# Altium footprint library Microchip.PcbLib: 7 footprints
Each footprint in its own frame and in the unit in brackets; x right, y up, seen from the top. Pads: shape width x height; smd on the part's side, far side on the other; paste and mask are expansions set on the pad; w line width, h text height; cw(c..) or ccw(c..) is an arc to the next point about the centre after c.
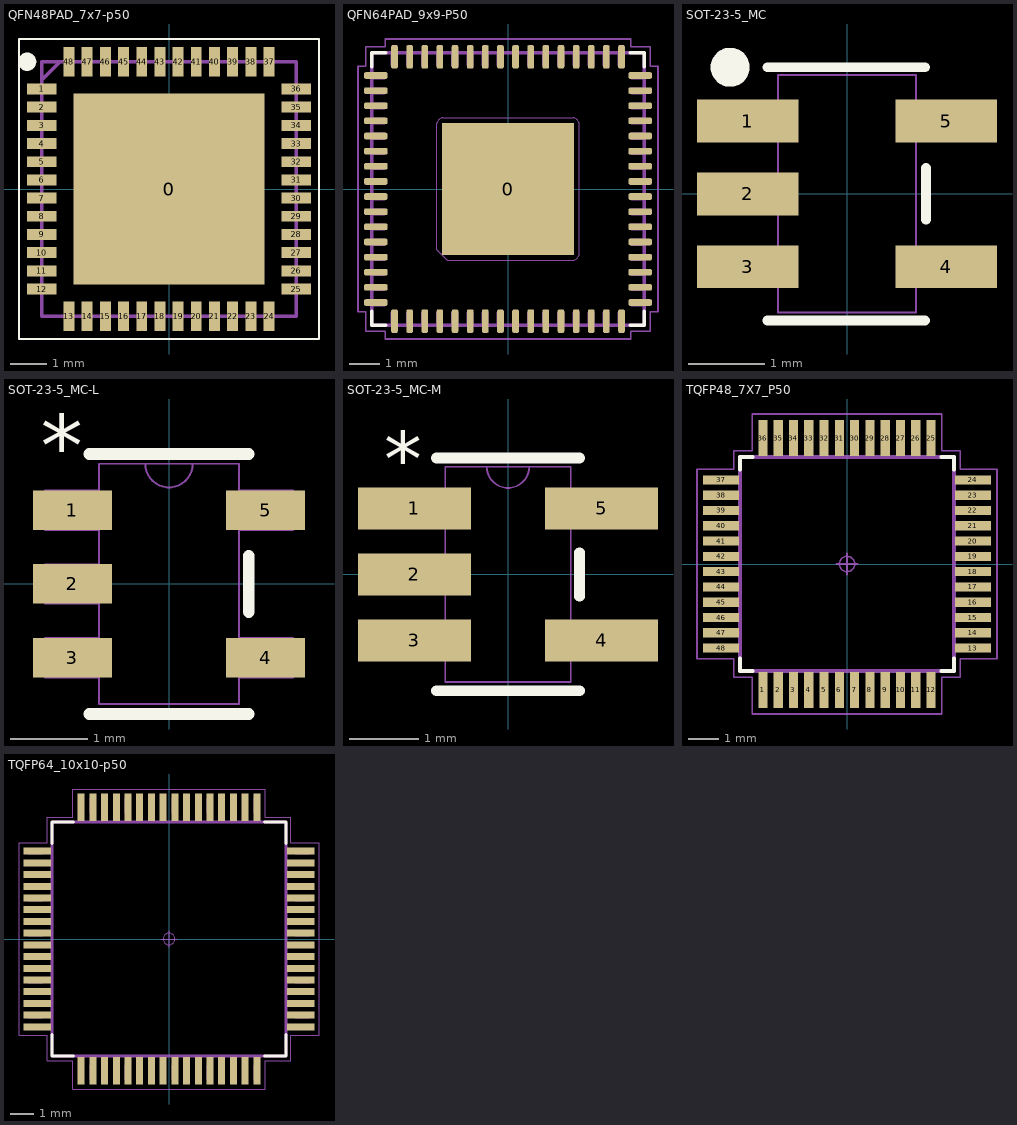
[diagram p0: the footprints below, top view; thin cyan lines are the x and y axes]

## QFN48PAD_7x7-p50 [mil]
pads (49):
  rect 206.69x206.69 smd: 0(0,0)
  rect 31.5x11.81 smd: 1(-137.8,108.27) 2(-137.8,88.58) 3(-137.8,68.9) 4(-137.8,49.21) 5(-137.8,29.53) 6(-137.8,9.84) 7(-137.8,-9.84) 8(-137.8,-29.53) 9(-137.8,-49.21) 10(-137.8,-68.9) 11(-137.8,-88.58) 12(-137.8,-108.27) 25(137.8,-108.27) 26(137.8,-88.58) 27(137.8,-68.9) 28(137.8,-49.21) 29(137.8,-29.53) 30(137.8,-9.84) 31(137.8,9.84) 32(137.8,29.53) 33(137.8,49.21) 34(137.8,68.9) 35(137.8,88.58) 36(137.8,108.27)
  rect 11.81x31.5 smd: 13(-108.27,-137.8) 14(-88.58,-137.8) 15(-68.9,-137.8) 16(-49.21,-137.8) 17(-29.53,-137.8) 18(-9.84,-137.8) 19(9.84,-137.8) 20(29.53,-137.8) 21(49.21,-137.8) 22(68.9,-137.8) 23(88.58,-137.8) 24(108.27,-137.8) 37(108.27,137.8) 38(88.58,137.8) 39(68.9,137.8) 40(49.21,137.8) 41(29.53,137.8) 42(9.84,137.8) 43(-9.84,137.8) 44(-29.53,137.8) 45(-49.21,137.8) 46(-68.9,137.8) 47(-88.58,137.8) 48(-108.27,137.8)
Top Overlay:
  circle w9.84: c-153.54,137.8 r4.92
  lines w1.97: -162.4,-162.4 162.4,-162.4 162.4,162.4 -162.4,162.4 -162.4,-162.4
Assembly Top:
  lines w3.94: -137.8,118.11 -118.11,137.8 ; -137.8,-137.8 137.8,-137.8 137.8,137.8 -137.8,137.8 -137.8,-137.8
  text ".designator" at -120,-105 h45
3D body: height 35.43, standoff 0, extent -139.76,-139.76 139.77,139.77

## QFN64PAD_9x9-P50 [mm]
height 1
pads (65):
  rect 4.35x4.35 smd: 0(0,0)
  rrect55% 0.22x0.78 smd: 1(-3.75,-4.365) 2(-3.25,-4.365) 3(-2.75,-4.365) 4(-2.25,-4.365) 5(-1.75,-4.365) 6(-1.25,-4.365) 7(-0.75,-4.365) 8(-0.25,-4.365) 9(0.25,-4.365) 10(0.75,-4.365) 11(1.25,-4.365) 12(1.75,-4.365) 13(2.25,-4.365) 14(2.75,-4.365) 15(3.25,-4.365) 16(3.75,-4.365) 33(3.75,4.365) 34(3.25,4.365) 35(2.75,4.365) 36(2.25,4.365) 37(1.75,4.365) 38(1.25,4.365) 39(0.75,4.365) 40(0.25,4.365) 41(-0.25,4.365) 42(-0.75,4.365) 43(-1.25,4.365) 44(-1.75,4.365) 45(-2.25,4.365) 46(-2.75,4.365) 47(-3.25,4.365) 48(-3.75,4.365)
  rrect55% 0.78x0.22 smd: 17(4.365,-3.75) 18(4.365,-3.25) 19(4.365,-2.75) 20(4.365,-2.25) 21(4.365,-1.75) 22(4.365,-1.25) 23(4.365,-0.75) 24(4.365,-0.25) 25(4.365,0.25) 26(4.365,0.75) 27(4.365,1.25) 28(4.365,1.75) 29(4.365,2.25) 30(4.365,2.75) 31(4.365,3.25) 32(4.365,3.75) 49(-4.365,3.75) 50(-4.365,3.25) 51(-4.365,2.75) 52(-4.365,2.25) 53(-4.365,1.75) 54(-4.365,1.25) 55(-4.365,0.75) 56(-4.365,0.25) 57(-4.365,-0.25) 58(-4.365,-0.75) 59(-4.365,-1.25) 60(-4.365,-1.75) 61(-4.365,-2.25) 62(-4.365,-2.75) 63(-4.365,-3.25) 64(-4.365,-3.75)
Top Overlay:
  lines w0.12: -4.5,-4.04 -4.5,-4.5 -4.04,-4.5 ; -4.5,4.04 -4.5,4.5 -4.04,4.5 ; 4.04,-4.5 4.5,-4.5 4.5,-4.04 ; 4.04,4.5 4.5,4.5 4.5,4.04
Assembly Top:
  lines w0.12: -4.5,-4.5 -4.5,4.5 4.5,4.5 4.5,-4.5 -4.5,-4.5
3D Top:
  drawing of 268 lines, arcs and shapes, not listed
Courtyard Top:
  circle w0.05: c0,0 r0.25
  lines w0.05: -0.35,0 0.35,0 ; 0,-0.35 0,0.35 ; -4.955,-4.06 -4.955,4.06 -4.7,4.06 -4.7,4.7 -4.06,4.7 -4.06,4.955 4.06,4.955 4.06,4.7 4.7,4.7 4.7,4.06 4.955,4.06 4.955,-4.06 4.7,-4.06 4.7,-4.7 4.06,-4.7 4.06,-4.955 -4.06,-4.955 -4.06,-4.7 -4.7,-4.7 -4.7,-4.06 -4.955,-4.06
3D body: height 1, standoff 0, extent -4.55,-4.55 4.55,4.55

## SOT-23-5_MC [mil]
pads (5):
  rect 52x22 smd: 1(-51,37.4) 2(-51,0) 3(-51,-37.4) 4(51,-37.4) 5(51,37.4)
Top Overlay:
  circle w10: c-60,65 r5
  lines w5: -41,-65 40,-65 ; -41,65 40,65 ; 40.5,-13.3 40.5,13.3
Assembly Top:
  lines w1: -63,-47.4 -35.5,-47.4 -35.5,-27.4 -63,-27.4 -63,-47.4 ; -63,-10 -35.5,-10 -35.5,10 -63,10 -63,-10 ; -63,27.4 -35.5,27.4 -35.5,47.4 -63,47.4 -63,27.4 ; -35.5,-61 -35.5,61 35.5,61 35.5,-61 -35.5,-61 ; 35.5,-47.4 63,-47.4 63,-27.4 35.5,-27.4 35.5,-47.4 ; 35.5,27.4 63,27.4 63,47.4 35.5,47.4 35.5,27.4
  text ".designator" at 10,-50 h20
3D body: height 57.09, standoff 0, extent -62.99,-60.98 63,60.99

## SOT-23-5_MC-L [mil]
pads (5):
  rect 40x20 smd: 1(-49,37.4) 2(-49,0) 3(-49,-37.4) 4(49,-37.4) 5(49,37.4)
Top Overlay:
  lines w6: -40.5,-66 40.5,-66 ; -40.5,66 40.5,66 ; 40.5,-14.3 40.5,14.3
  text "*" at -65,55 h31.25
Outline:
  lines w1: -12,61 ccw(c0,61) 12,61 ; -63,-47.4 -35.5,-47.4 -35.5,-27.4 -63,-27.4 -63,-47.4 ; -63,-10 -35.5,-10 -35.5,10 -63,10 -63,-10 ; -63,27.4 -35.5,27.4 -35.5,47.4 -63,47.4 -63,27.4 ; -35.5,-61 -35.5,61 35.5,61 35.5,-61 -35.5,-61 ; 35.5,-47.4 63,-47.4 63,-27.4 35.5,-27.4 35.5,-47.4 ; 35.5,27.4 63,27.4 63,47.4 35.5,47.4 35.5,27.4
3D body: height 57.09, standoff 0, extent -62.99,-60.98 63,60.99

## SOT-23-5_MC-M [mil]
pads (5):
  rect 64x24 smd: 1(-53,37.4) 2(-53,0) 3(-53,-37.4) 4(53,-37.4) 5(53,37.4)
Top Overlay:
  lines w6: -40.5,-66 40.5,-66 ; -40.5,66 40.5,66 ; 40.5,-12.3 40.5,12.3
  text "*" at -70,50 h31.25
Outline:
  lines w1: -12,61 ccw(c0,61) 12,61 ; -63,-47.4 -35.5,-47.4 -35.5,-27.4 -63,-27.4 -63,-47.4 ; -63,-10 -35.5,-10 -35.5,10 -63,10 -63,-10 ; -63,27.4 -35.5,27.4 -35.5,47.4 -63,47.4 -63,27.4 ; -35.5,-61 -35.5,61 35.5,61 35.5,-61 -35.5,-61 ; 35.5,-47.4 63,-47.4 63,-27.4 35.5,-27.4 35.5,-47.4 ; 35.5,27.4 63,27.4 63,47.4 35.5,47.4 35.5,27.4
3D body: height 57.09, standoff 0, extent -62.99,-60.98 63,60.99

## TQFP48_7X7_P50 [mm]
height 1.2
pads (48):
  rect 0.3x1.17 smd: 1(-2.75,-4.12) 2(-2.25,-4.12) 3(-1.75,-4.12) 4(-1.25,-4.12) 5(-0.75,-4.12) 6(-0.25,-4.12) 7(0.25,-4.12) 8(0.75,-4.12) 9(1.25,-4.12) 10(1.75,-4.12) 11(2.25,-4.12) 12(2.75,-4.12) 25(2.75,4.12) 26(2.25,4.12) 27(1.75,4.12) 28(1.25,4.12) 29(0.75,4.12) 30(0.25,4.12) 31(-0.25,4.12) 32(-0.75,4.12) 33(-1.25,4.12) 34(-1.75,4.12) 35(-2.25,4.12) 36(-2.75,4.12)
  rect 1.17x0.3 smd: 13(4.12,-2.75) 14(4.12,-2.25) 15(4.12,-1.75) 16(4.12,-1.25) 17(4.12,-0.75) 18(4.12,-0.25) 19(4.12,0.25) 20(4.12,0.75) 21(4.12,1.25) 22(4.12,1.75) 23(4.12,2.25) 24(4.12,2.75) 37(-4.12,2.75) 38(-4.12,2.25) 39(-4.12,1.75) 40(-4.12,1.25) 41(-4.12,0.75) 42(-4.12,0.25) 43(-4.12,-0.25) 44(-4.12,-0.75) 45(-4.12,-1.25) 46(-4.12,-1.75) 47(-4.12,-2.25) 48(-4.12,-2.75)
Top Overlay:
  lines w0.12: -3.5,-3.08 -3.5,-3.5 -3.08,-3.5 ; -3.5,3.08 -3.5,3.5 -3.08,3.5 ; 3.08,-3.5 3.5,-3.5 3.5,-3.08 ; 3.08,3.5 3.5,3.5 3.5,3.08
Assembly Top:
  lines w0.12: -3.5,-3.5 3.5,-3.5 3.5,3.5 -3.5,3.5 -3.5,-3.5
Assembly Bottom:
  text ".designator" at -2.921,-0.635 h1.14
3D Top:
  lines w0.025: -3.5,-3.5 3.5,-3.5 3.5,3.5 -3.5,3.5 -3.5,-3.5
Courtyard Top:
  circle w0.05: c0,0 r0.25
  lines w0.05: -0.35,0 0.35,0 ; 0,-0.35 0,0.35 ; -4.905,-3.1 -3.7,-3.1 -3.7,-3.7 -3.1,-3.7 -3.1,-4.905 3.1,-4.905 3.1,-3.7 3.7,-3.7 3.7,-3.1 4.905,-3.1 4.905,3.1 3.7,3.1 3.7,3.7 3.1,3.7 3.1,4.905 -3.1,4.905 -3.1,3.7 -3.7,3.7 -3.7,3.1 -4.905,3.1 -4.905,-3.1
3D body: height 1.2, standoff 0, extent -4.5,-4.5 4.5,4.5

## TQFP64_10x10-p50 [mm]
height 1.2
pads (64):
  rect 0.3x1.17 smd: 1(-3.75,-5.62) 2(-3.25,-5.62) 3(-2.75,-5.62) 4(-2.25,-5.62) 5(-1.75,-5.62) 6(-1.25,-5.62) 7(-0.75,-5.62) 8(-0.25,-5.62) 9(0.25,-5.62) 10(0.75,-5.62) 11(1.25,-5.62) 12(1.75,-5.62) 13(2.25,-5.62) 14(2.75,-5.62) 15(3.25,-5.62) 16(3.75,-5.62) 33(3.75,5.62) 34(3.25,5.62) 35(2.75,5.62) 36(2.25,5.62) 37(1.75,5.62) 38(1.25,5.62) 39(0.75,5.62) 40(0.25,5.62) 41(-0.25,5.62) 42(-0.75,5.62) 43(-1.25,5.62) 44(-1.75,5.62) 45(-2.25,5.62) 46(-2.75,5.62) 47(-3.25,5.62) 48(-3.75,5.62)
  rect 1.17x0.3 smd: 17(5.62,-3.75) 18(5.62,-3.25) 19(5.62,-2.75) 20(5.62,-2.25) 21(5.62,-1.75) 22(5.62,-1.25) 23(5.62,-0.75) 24(5.62,-0.25) 25(5.62,0.25) 26(5.62,0.75) 27(5.62,1.25) 28(5.62,1.75) 29(5.62,2.25) 30(5.62,2.75) 31(5.62,3.25) 32(5.62,3.75) 49(-5.62,3.75) 50(-5.62,3.25) 51(-5.62,2.75) 52(-5.62,2.25) 53(-5.62,1.75) 54(-5.62,1.25) 55(-5.62,0.75) 56(-5.62,0.25) 57(-5.62,-0.25) 58(-5.62,-0.75) 59(-5.62,-1.25) 60(-5.62,-1.75) 61(-5.62,-2.25) 62(-5.62,-2.75) 63(-5.62,-3.25) 64(-5.62,-3.75)
Top Overlay:
  lines w0.12: -5,-4.08 -5,-5 -4.08,-5 ; -5,4.08 -5,5 -4.08,5 ; 4.08,-5 5,-5 5,-4.08 ; 4.08,5 5,5 5,4.08
Assembly Top:
  lines w0.12: -5,-5 -5,5 5,5 5,-5 -5,-5
3D Top:
  drawing of 260 lines, arcs and shapes, not listed
Courtyard Top:
  circle w0.05: c0,0 r0.25
  lines w0.05: -0.35,0 0.35,0 ; 0,-0.35 0,0.35 ; -6.405,-4.1 -6.405,4.1 -5.2,4.1 -5.2,5.2 -4.1,5.2 -4.1,6.405 4.1,6.405 4.1,5.2 5.2,5.2 5.2,4.1 6.405,4.1 6.405,-4.1 5.2,-4.1 5.2,-5.2 4.1,-5.2 4.1,-6.405 -4.1,-6.405 -4.1,-5.2 -5.2,-5.2 -5.2,-4.1 -6.405,-4.1
3D body: height 1.2, standoff 0, extent -6,-6 6,6